# Altium schematic symbol library 3.7V Li-Ion Battery.SchLib: 1 symbol
Pins are listed as number, name and electrical type; pins without a type are passive.

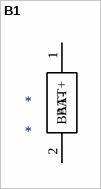
[diagram p0: symbol B1]

## B1
designator *
pins: 1 BAT+, 2 BAT-